# EAGLE library part 651305142821 (library Eagle_WR-USB (rev22c))
WR-COM Mini USB 2.0 Type AB SMT Horizontal 5 Contacts Kind Properties Durability:1 500 Mating cycles Connector Type:Mini USB Gender:Receptacle Type:Horizontal General Information Operating Temperature:-40up to +105 °C Electrical Properties Working Voltage:30V (AC) Withstanding Voltage:750V (AC) Contact Resistance:20 mΩ Material Properties Insulator Material:LCP Insulator Flammability Rating:UL94 V-0 Color:Black Cover Material:Brass Cover Plating:Tin Contact Material:Copper Alloy Contact Plating: Selective Gold Contact Type:Stamped Shielding Material:Brass Shielding Plating:Nickel <https://www.we-online.com/catalog/media/o32880v209%20Family_WR-651305142821.jpg> Details see: https://www.we-online.com/catalog/en/COM_SMT_MINI_TYPE_AB_HORIZONTAL/ Updated by Yingchun, Shan 2020-01-16 2020 (C) Würth Elektronik
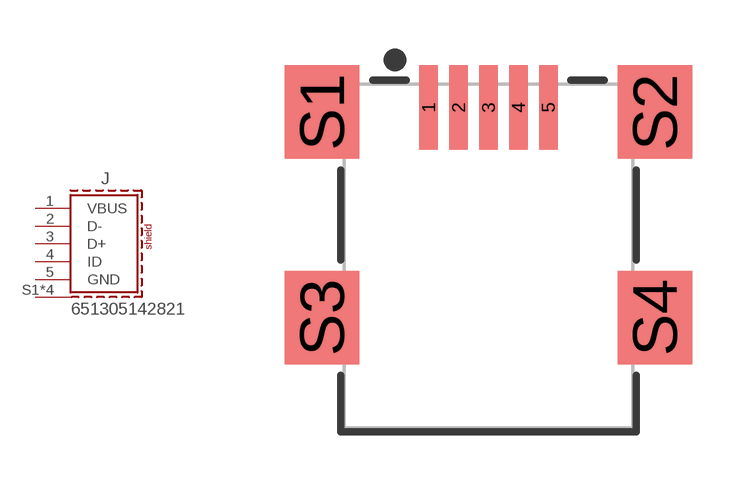
[diagram p22: symbol with the pads of 651305142821; footprint 651305142821]

Designator prefix J

## 651305142821 (APPLICATION: Mini USB; DATASHEET-URL: https://www.we-online.com/redexpert/spec/651305142821?ae; GERDER: Receptacle; INTERFACE-TYPE: TypeAB; IR: 1A; MOUNT: SMT; PACKAGING: Tape and Reel; PART-NUMBER: 651305142821; PINS: 5; TYPE: Horizontal; VALUE: 651305142821; WORKING-VOLTAGE: 30V(AC))  [651305142821]
1  VBUS  pas
2  D-  pas
3  D+  pas
4  ID  pas
5  GND  pas
S1  SHIELD  pas
S2  SHIELD  pas
S3  SHIELD  pas
S4  SHIELD  pas

## Footprint 651305142821 (pad centres in mm)
WR-COM Mini USB 2.0 Type AB SMT Horizontal 5 Contacts
smd 0.5 x 2.25: 1 -1.6,3.975; 2 -0.8,3.975; 3 0,3.975; 4 0.8,3.975; 5 1.6,3.975
smd 2 x 2.5: S1 -4.45,3.85; S2 4.45,3.85; S3 -4.45,-1.65; S4 4.45,-1.65